# EAGLE library part MCP2551 (library Elecrow_IC)
High-Speed CAN Transceiver http://ww1.microchip.com/downloads/en/devicedoc/21667f.pdf
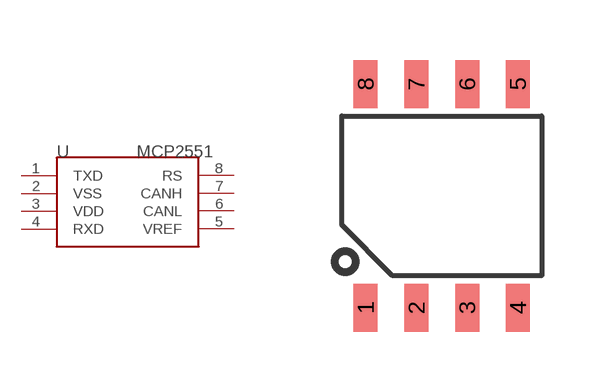
[diagram p17: symbol with the pads of SOIC8-6.0; footprint SOIC8-6.0]

Designator prefix U

## MCP2551-SOIC8  [SOIC8-6.0]
1  TXD
2  VSS
3  VDD
4  RXD
5  VREF
6  CANL
7  CANH
8  RS

## Footprint SOIC8-6.0 (pad centres in mm)
smd 0.6 x 1.2: 1 -1.905,-2.8; 2 -0.635,-2.8; 3 0.635,-2.8; 4 1.905,-2.8; 5 1.905,2.8; 6 0.635,2.8; 7 -0.635,2.8; 8 -1.905,2.8